# EAGLE library part 679307124022 (library WR-WTB)
WR-WTB 1.50 mm SMT Male Vertical Shrouded Header Material Properties Insulator Material PA6T Insulator Flammability Rating UL94 V-0 Color Ivory Contact Material Copper Alloy Contact Plating Tin Contact Type Stamped Certification UL Approval E323964 General Information Operating Temperature -25 °C up to +85 °C Compliance RoHS IR 1 A Working Voltage 50 V (AC) Withstanding Voltage 500 V (AC) Contact Resistance 20 mΩ RISO 100 MΩ Pitch 1.5 mm Gender Male Type Vertical Packaging Properties Packaging Tape and Reel with Cap Details see: www.we-online.com/en/components/products/WTB_1_50_SMT_MALE_VERTICAL_SHROUDED_HEADER_6793XX124022 Updated by Ella 2025-03-06 2025 (C) Würth Elektronik
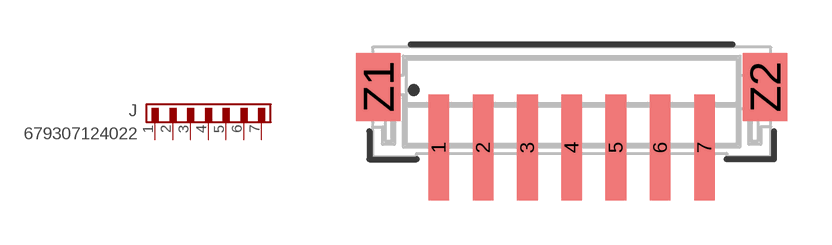
[diagram p77: symbol with the pads of 679307124022; footprint 679307124022]

Designator prefix J

## 679307124022 (CONTACT-RESISTANCE: 20mOhm; DATASHEET: https://www.we-online.com/redexpert/spec/679307124022?ae; GENDER: Male; IR: 1A; L: 13.5mm; MOUNT: SMT; PACKAGING: Tape and Reel with Cap; PART-NUMBER: 679307124022; PCB-CABLE-PANEL: PCB; PINS: 7; PITCH: 1.5mm; TYPE: Vertical; VALUE: 679307124022; WORKING-VOLTAGE: 50V(AC))  [679307124022]
1  1  pas
2  2  pas
3  3  pas
4  4  pas
5  5  pas
6  6  pas
7  7  pas

## Footprint 679307124022 (pad centres in mm)
WR-WTB 1.50 mm SMT Male Vertical Shrouded Header,7 Pins
smd 0.7 x 3.6: 1 -4.5,-1.55; 2 -3,-1.55; 3 -1.5,-1.55; 4 0,-1.55; 5 1.5,-1.55; 6 3,-1.55; 7 4.5,-1.55
smd 1.5 x 2.3: Z1 -6.55,0.5; Z2 6.55,0.5